# Altium footprint library Opamp_Comparator.PcbLib: 18 footprints (part 2 of 2)
Each footprint in its own frame and in the unit in brackets; x right, y up, seen from the top. Pads: shape width x height; smd on the part's side, far side on the other; paste and mask are expansions set on the pad; w line width, h text height; cw(c..) or ccw(c..) is an arc to the next point about the centre after c.
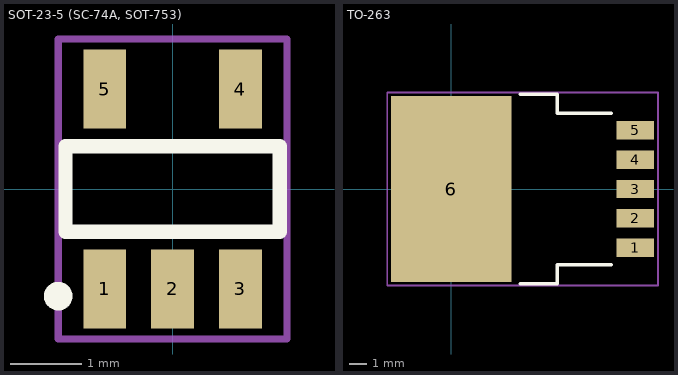
[diagram p1: the footprints below, top view; thin cyan lines are the x and y axes]

## SOT-23-5 (SC-74A, SOT-753) [mm]
pads (5):
  rect 0.6x1.1 smd: 1(-0.95,-1.4) 2(0,-1.4) 3(0.95,-1.4) 4(0.95,1.4) 5(-0.95,1.4)
Top Overlay:
  circle w0.2: c-1.6,-1.5 r0.1
  lines w0.2: -1.5,-0.6 1.5,-0.6 1.5,0.6 -1.5,0.6 -1.5,-0.6
Border:
  lines w0.1: -1.6,-2.1 1.6,-2.1 1.6,2.1 -1.6,2.1 -1.6,-2.1
3D body "CircuitWorks-SOT-23-5.STEP": height 1.1, standoff 0, extent -1.5,-1.25 1.5,1.25

## TO-263 [mm]
pads (6):
  rect 2.16x1.07 smd: 1(10.675,-3.4) 2(10.675,-1.7) 3(10.675,0) 4(10.675,1.7) 5(10.675,3.4)
  rect 7x10.8 smd: 6(0,0)
Top Overlay:
  lines w0.2: 4,-5.5 6.16,-5.5 6.16,-4.4 9.3,-4.4 ; 4,5.5 6.16,5.5 6.16,4.4 9.3,4.4
Border:
  lines w0.1: -3.7,-5.6 -3.7,5.6 12,5.6 12,-5.6 -3.7,-5.6
3D body "User Library-TO-263BA.STEP": height 4.38, standoff 0, extent -2.894,-5.112 11.152,5.112